# EAGLE library part DASH_TACH_CON (library MSTFSAE-Connectors)
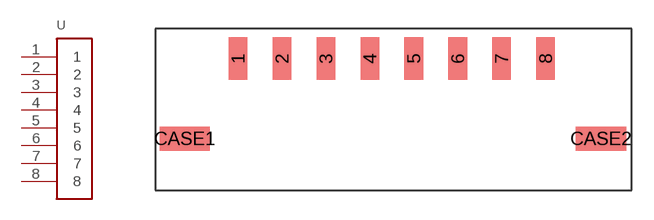
[diagram p1: symbol with the pads of 2-1445100-8; footprint 2-1445100-8]

Designator prefix -

## DASH_TACH_CON  [2-1445100-8]
1  1
2  2
3  3
4  4
5  5
6  6
7  7
8  8

## Footprint 2-1445100-8 (pad centres in mm)
smd 1.27 x 2.92: 1 3.635,5.48; 2 6.635,5.48; 3 9.635,5.48; 4 12.635,5.48; 5 15.635,5.48; 6 18.635,5.48; 7 21.635,5.48; 8 24.635,5.48
smd 3.43 x 1.65: CASE1 0,0; CASE2 28.41,0